# Altium schematic symbol library Resistor.SchLib: 30 symbols
Pins are listed as number, name and electrical type; pins without a type are passive.

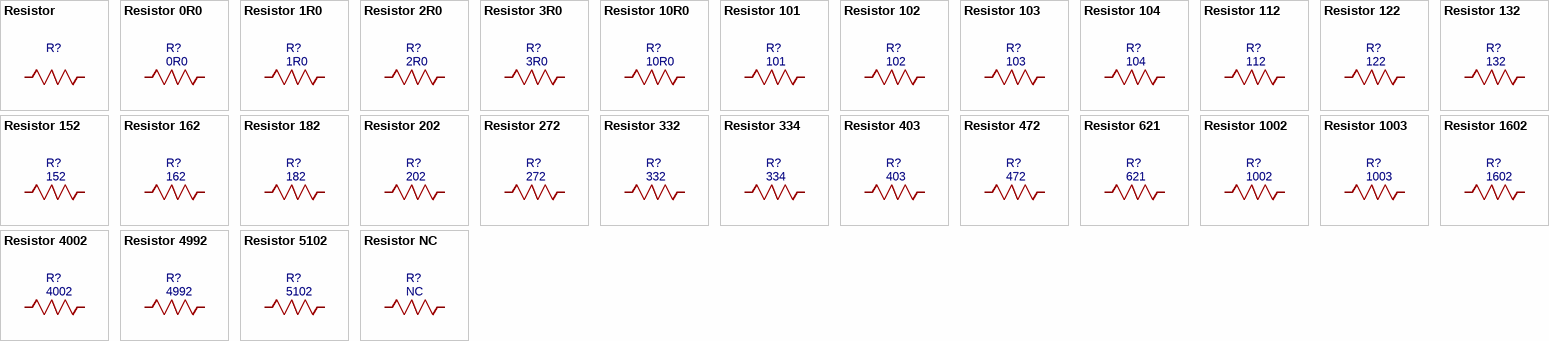
[diagram p0: symbols Resistor to Resistor NC]

## Resistor
designator R?
电阻
footprint R0201 (贴片电阻)
footprint R0402 (贴片电阻)
footprint R0603 (贴片电阻)
footprint R0805 (贴片电阻)
footprint R1206 (贴片电阻)
footprint R1210 (贴片电阻)
footprint R2010 (贴片电阻)
footprint R2512 (贴片电阻)
footprint R_AXIAL-0.3 (直插电阻)
footprint R_AXIAL-0.4 (直插电阻)
footprint R_AXIAL-0.5 (直插电阻)
footprint R_AXIAL-0.6 (直插电阻)
footprint R_AXIAL-0.8 (直插电阻)
footprint R_AXIAL-1.0 (直插电阻)
footprint R_AXIAL-1.2 (直插电阻)
footprint R0805-MIX-0.3 (贴片或直插电阻)
pins: 1, 2

## Resistor 0R0
designator R?, comment 0R0
电阻
footprint R0201 (贴片电阻)
footprint R0402 (贴片电阻)
footprint R0603 (贴片电阻)
footprint R0805 (贴片电阻)
footprint R1206 (贴片电阻)
footprint R1210 (贴片电阻)
footprint R2010 (贴片电阻)
footprint R2512 (贴片电阻)
footprint R_AXIAL-0.3 (直插电阻)
footprint R_AXIAL-0.4 (直插电阻)
footprint R_AXIAL-0.5 (直插电阻)
footprint R_AXIAL-0.6 (直插电阻)
footprint R_AXIAL-0.8 (直插电阻)
footprint R_AXIAL-1.0 (直插电阻)
footprint R_AXIAL-1.2 (直插电阻)
footprint R0805-MIX-0.3 (贴片或直插电阻)
pins: 1, 2

## Resistor 1R0
designator R?, comment 1R0
电阻
footprint R0201 (贴片电阻)
footprint R0402 (贴片电阻)
footprint R0603 (贴片电阻)
footprint R0805 (贴片电阻)
footprint R1206 (贴片电阻)
footprint R1210 (贴片电阻)
footprint R2010 (贴片电阻)
footprint R2512 (贴片电阻)
footprint R_AXIAL-0.3 (直插电阻)
footprint R_AXIAL-0.4 (直插电阻)
footprint R_AXIAL-0.5 (直插电阻)
footprint R_AXIAL-0.6 (直插电阻)
footprint R_AXIAL-0.8 (直插电阻)
footprint R_AXIAL-1.0 (直插电阻)
footprint R_AXIAL-1.2 (直插电阻)
footprint R0805-MIX-0.3 (贴片或直插电阻)
pins: 1, 2

## Resistor 2R0
designator R?, comment 2R0
电阻
footprint R0201 (贴片电阻)
footprint R0402 (贴片电阻)
footprint R0603 (贴片电阻)
footprint R0805 (贴片电阻)
footprint R1206 (贴片电阻)
footprint R1210 (贴片电阻)
footprint R2010 (贴片电阻)
footprint R2512 (贴片电阻)
footprint R_AXIAL-0.3 (直插电阻)
footprint R_AXIAL-0.4 (直插电阻)
footprint R_AXIAL-0.5 (直插电阻)
footprint R_AXIAL-0.6 (直插电阻)
footprint R_AXIAL-0.8 (直插电阻)
footprint R_AXIAL-1.0 (直插电阻)
footprint R_AXIAL-1.2 (直插电阻)
footprint R0805-MIX-0.3 (贴片或直插电阻)
pins: 1, 2

## Resistor 3R0
designator R?, comment 3R0
电阻
footprint R0201 (贴片电阻)
footprint R0402 (贴片电阻)
footprint R0603 (贴片电阻)
footprint R0805 (贴片电阻)
footprint R1206 (贴片电阻)
footprint R1210 (贴片电阻)
footprint R2010 (贴片电阻)
footprint R2512 (贴片电阻)
footprint R_AXIAL-0.3 (直插电阻)
footprint R_AXIAL-0.4 (直插电阻)
footprint R_AXIAL-0.5 (直插电阻)
footprint R_AXIAL-0.6 (直插电阻)
footprint R_AXIAL-0.8 (直插电阻)
footprint R_AXIAL-1.0 (直插电阻)
footprint R_AXIAL-1.2 (直插电阻)
footprint R0805-MIX-0.3 (贴片或直插电阻)
pins: 1, 2

## Resistor 10R0
designator R?, comment 10R0
电阻
footprint R0201 (贴片电阻)
footprint R0402 (贴片电阻)
footprint R0603 (贴片电阻)
footprint R0805 (贴片电阻)
footprint R1206 (贴片电阻)
footprint R1210 (贴片电阻)
footprint R2010 (贴片电阻)
footprint R2512 (贴片电阻)
footprint R_AXIAL-0.3 (直插电阻)
footprint R_AXIAL-0.4 (直插电阻)
footprint R_AXIAL-0.5 (直插电阻)
footprint R_AXIAL-0.6 (直插电阻)
footprint R_AXIAL-0.8 (直插电阻)
footprint R_AXIAL-1.0 (直插电阻)
footprint R_AXIAL-1.2 (直插电阻)
footprint R0805-MIX-0.3 (贴片或直插电阻)
pins: 1, 2

## Resistor 101
designator R?, comment 101
电阻
footprint R0201 (贴片电阻)
footprint R0402 (贴片电阻)
footprint R0603 (贴片电阻)
footprint R0805 (贴片电阻)
footprint R1206 (贴片电阻)
footprint R1210 (贴片电阻)
footprint R2010 (贴片电阻)
footprint R2512 (贴片电阻)
footprint R_AXIAL-0.3 (直插电阻)
footprint R_AXIAL-0.4 (直插电阻)
footprint R_AXIAL-0.5 (直插电阻)
footprint R_AXIAL-0.6 (直插电阻)
footprint R_AXIAL-0.8 (直插电阻)
footprint R_AXIAL-1.0 (直插电阻)
footprint R_AXIAL-1.2 (直插电阻)
footprint R0805-MIX-0.3 (贴片或直插电阻)
pins: 1, 2

## Resistor 102
designator R?, comment 102
电阻
footprint R0201 (贴片电阻)
footprint R0402 (贴片电阻)
footprint R0603 (贴片电阻)
footprint R0805 (贴片电阻)
footprint R1206 (贴片电阻)
footprint R1210 (贴片电阻)
footprint R2010 (贴片电阻)
footprint R2512 (贴片电阻)
footprint R_AXIAL-0.3 (直插电阻)
footprint R_AXIAL-0.4 (直插电阻)
footprint R_AXIAL-0.5 (直插电阻)
footprint R_AXIAL-0.6 (直插电阻)
footprint R_AXIAL-0.8 (直插电阻)
footprint R_AXIAL-1.0 (直插电阻)
footprint R_AXIAL-1.2 (直插电阻)
footprint R0805-MIX-0.3 (贴片或直插电阻)
pins: 1, 2

## Resistor 103
designator R?, comment 103
电阻
footprint R0201 (贴片电阻)
footprint R0402 (贴片电阻)
footprint R0603 (贴片电阻)
footprint R0805 (贴片电阻)
footprint R1206 (贴片电阻)
footprint R1210 (贴片电阻)
footprint R2010 (贴片电阻)
footprint R2512 (贴片电阻)
footprint R_AXIAL-0.3 (直插电阻)
footprint R_AXIAL-0.4 (直插电阻)
footprint R_AXIAL-0.5 (直插电阻)
footprint R_AXIAL-0.6 (直插电阻)
footprint R_AXIAL-0.8 (直插电阻)
footprint R_AXIAL-1.0 (直插电阻)
footprint R_AXIAL-1.2 (直插电阻)
footprint R0805-MIX-0.3 (贴片或直插电阻)
pins: 1, 2

## Resistor 104
designator R?, comment 104
电阻
footprint R0201 (贴片电阻)
footprint R0402 (贴片电阻)
footprint R0603 (贴片电阻)
footprint R0805 (贴片电阻)
footprint R1206 (贴片电阻)
footprint R1210 (贴片电阻)
footprint R2010 (贴片电阻)
footprint R2512 (贴片电阻)
footprint R_AXIAL-0.3 (直插电阻)
footprint R_AXIAL-0.4 (直插电阻)
footprint R_AXIAL-0.5 (直插电阻)
footprint R_AXIAL-0.6 (直插电阻)
footprint R_AXIAL-0.8 (直插电阻)
footprint R_AXIAL-1.0 (直插电阻)
footprint R_AXIAL-1.2 (直插电阻)
footprint R0805-MIX-0.3 (贴片或直插电阻)
pins: 1, 2

## Resistor 112
designator R?, comment 112
电阻
footprint R0201 (贴片电阻)
footprint R0402 (贴片电阻)
footprint R0603 (贴片电阻)
footprint R0805 (贴片电阻)
footprint R1206 (贴片电阻)
footprint R1210 (贴片电阻)
footprint R2010 (贴片电阻)
footprint R2512 (贴片电阻)
footprint R_AXIAL-0.3 (直插电阻)
footprint R_AXIAL-0.4 (直插电阻)
footprint R_AXIAL-0.5 (直插电阻)
footprint R_AXIAL-0.6 (直插电阻)
footprint R_AXIAL-0.8 (直插电阻)
footprint R_AXIAL-1.0 (直插电阻)
footprint R_AXIAL-1.2 (直插电阻)
footprint R0805-MIX-0.3 (贴片或直插电阻)
pins: 1, 2

## Resistor 122
designator R?, comment 122
电阻
footprint R0201 (贴片电阻)
footprint R0402 (贴片电阻)
footprint R0603 (贴片电阻)
footprint R0805 (贴片电阻)
footprint R1206 (贴片电阻)
footprint R1210 (贴片电阻)
footprint R2010 (贴片电阻)
footprint R2512 (贴片电阻)
footprint R_AXIAL-0.3 (直插电阻)
footprint R_AXIAL-0.4 (直插电阻)
footprint R_AXIAL-0.5 (直插电阻)
footprint R_AXIAL-0.6 (直插电阻)
footprint R_AXIAL-0.8 (直插电阻)
footprint R_AXIAL-1.0 (直插电阻)
footprint R_AXIAL-1.2 (直插电阻)
footprint R0805-MIX-0.3 (贴片或直插电阻)
pins: 1, 2

## Resistor 132
designator R?, comment 132
电阻
footprint R0201 (贴片电阻)
footprint R0402 (贴片电阻)
footprint R0603 (贴片电阻)
footprint R0805 (贴片电阻)
footprint R1206 (贴片电阻)
footprint R1210 (贴片电阻)
footprint R2010 (贴片电阻)
footprint R2512 (贴片电阻)
footprint R_AXIAL-0.3 (直插电阻)
footprint R_AXIAL-0.4 (直插电阻)
footprint R_AXIAL-0.5 (直插电阻)
footprint R_AXIAL-0.6 (直插电阻)
footprint R_AXIAL-0.8 (直插电阻)
footprint R_AXIAL-1.0 (直插电阻)
footprint R_AXIAL-1.2 (直插电阻)
footprint R0805-MIX-0.3 (贴片或直插电阻)
pins: 1, 2

## Resistor 152
designator R?, comment 152
电阻
footprint R0201 (贴片电阻)
footprint R0402 (贴片电阻)
footprint R0603 (贴片电阻)
footprint R0805 (贴片电阻)
footprint R1206 (贴片电阻)
footprint R1210 (贴片电阻)
footprint R2010 (贴片电阻)
footprint R2512 (贴片电阻)
footprint R_AXIAL-0.3 (直插电阻)
footprint R_AXIAL-0.4 (直插电阻)
footprint R_AXIAL-0.5 (直插电阻)
footprint R_AXIAL-0.6 (直插电阻)
footprint R_AXIAL-0.8 (直插电阻)
footprint R_AXIAL-1.0 (直插电阻)
footprint R_AXIAL-1.2 (直插电阻)
footprint R0805-MIX-0.3 (贴片或直插电阻)
pins: 1, 2

## Resistor 162
designator R?, comment 162
电阻
footprint R0201 (贴片电阻)
footprint R0402 (贴片电阻)
footprint R0603 (贴片电阻)
footprint R0805 (贴片电阻)
footprint R1206 (贴片电阻)
footprint R1210 (贴片电阻)
footprint R2010 (贴片电阻)
footprint R2512 (贴片电阻)
footprint R_AXIAL-0.3 (直插电阻)
footprint R_AXIAL-0.4 (直插电阻)
footprint R_AXIAL-0.5 (直插电阻)
footprint R_AXIAL-0.6 (直插电阻)
footprint R_AXIAL-0.8 (直插电阻)
footprint R_AXIAL-1.0 (直插电阻)
footprint R_AXIAL-1.2 (直插电阻)
footprint R0805-MIX-0.3 (贴片或直插电阻)
pins: 1, 2

## Resistor 182
designator R?, comment 182
电阻
footprint R0201 (贴片电阻)
footprint R0402 (贴片电阻)
footprint R0603 (贴片电阻)
footprint R0805 (贴片电阻)
footprint R1206 (贴片电阻)
footprint R1210 (贴片电阻)
footprint R2010 (贴片电阻)
footprint R2512 (贴片电阻)
footprint R_AXIAL-0.3 (直插电阻)
footprint R_AXIAL-0.4 (直插电阻)
footprint R_AXIAL-0.5 (直插电阻)
footprint R_AXIAL-0.6 (直插电阻)
footprint R_AXIAL-0.8 (直插电阻)
footprint R_AXIAL-1.0 (直插电阻)
footprint R_AXIAL-1.2 (直插电阻)
footprint R0805-MIX-0.3 (贴片或直插电阻)
pins: 1, 2

## Resistor 202
designator R?, comment 202
电阻
footprint R0201 (贴片电阻)
footprint R0402 (贴片电阻)
footprint R0603 (贴片电阻)
footprint R0805 (贴片电阻)
footprint R1206 (贴片电阻)
footprint R1210 (贴片电阻)
footprint R2010 (贴片电阻)
footprint R2512 (贴片电阻)
footprint R_AXIAL-0.3 (直插电阻)
footprint R_AXIAL-0.4 (直插电阻)
footprint R_AXIAL-0.5 (直插电阻)
footprint R_AXIAL-0.6 (直插电阻)
footprint R_AXIAL-0.8 (直插电阻)
footprint R_AXIAL-1.0 (直插电阻)
footprint R_AXIAL-1.2 (直插电阻)
footprint R0805-MIX-0.3 (贴片或直插电阻)
pins: 1, 2

## Resistor 272
designator R?, comment 272
电阻
footprint R0201 (贴片电阻)
footprint R0402 (贴片电阻)
footprint R0603 (贴片电阻)
footprint R0805 (贴片电阻)
footprint R1206 (贴片电阻)
footprint R1210 (贴片电阻)
footprint R2010 (贴片电阻)
footprint R2512 (贴片电阻)
footprint R_AXIAL-0.3 (直插电阻)
footprint R_AXIAL-0.4 (直插电阻)
footprint R_AXIAL-0.5 (直插电阻)
footprint R_AXIAL-0.6 (直插电阻)
footprint R_AXIAL-0.8 (直插电阻)
footprint R_AXIAL-1.0 (直插电阻)
footprint R_AXIAL-1.2 (直插电阻)
footprint R0805-MIX-0.3 (贴片或直插电阻)
pins: 1, 2

## Resistor 332
designator R?, comment 332
电阻
footprint R0201 (贴片电阻)
footprint R0402 (贴片电阻)
footprint R0603 (贴片电阻)
footprint R0805 (贴片电阻)
footprint R1206 (贴片电阻)
footprint R1210 (贴片电阻)
footprint R2010 (贴片电阻)
footprint R2512 (贴片电阻)
footprint R_AXIAL-0.3 (直插电阻)
footprint R_AXIAL-0.4 (直插电阻)
footprint R_AXIAL-0.5 (直插电阻)
footprint R_AXIAL-0.6 (直插电阻)
footprint R_AXIAL-0.8 (直插电阻)
footprint R_AXIAL-1.0 (直插电阻)
footprint R_AXIAL-1.2 (直插电阻)
footprint R0805-MIX-0.3 (贴片或直插电阻)
pins: 1, 2

## Resistor 334
designator R?, comment 334
电阻
footprint R0201 (贴片电阻)
footprint R0402 (贴片电阻)
footprint R0603 (贴片电阻)
footprint R0805 (贴片电阻)
footprint R1206 (贴片电阻)
footprint R1210 (贴片电阻)
footprint R2010 (贴片电阻)
footprint R2512 (贴片电阻)
footprint R_AXIAL-0.3 (直插电阻)
footprint R_AXIAL-0.4 (直插电阻)
footprint R_AXIAL-0.5 (直插电阻)
footprint R_AXIAL-0.6 (直插电阻)
footprint R_AXIAL-0.8 (直插电阻)
footprint R_AXIAL-1.0 (直插电阻)
footprint R_AXIAL-1.2 (直插电阻)
footprint R0805-MIX-0.3 (贴片或直插电阻)
pins: 1, 2

## Resistor 403
designator R?, comment 403
电阻
footprint R0201 (贴片电阻)
footprint R0402 (贴片电阻)
footprint R0603 (贴片电阻)
footprint R0805 (贴片电阻)
footprint R1206 (贴片电阻)
footprint R1210 (贴片电阻)
footprint R2010 (贴片电阻)
footprint R2512 (贴片电阻)
footprint R_AXIAL-0.3 (直插电阻)
footprint R_AXIAL-0.4 (直插电阻)
footprint R_AXIAL-0.5 (直插电阻)
footprint R_AXIAL-0.6 (直插电阻)
footprint R_AXIAL-0.8 (直插电阻)
footprint R_AXIAL-1.0 (直插电阻)
footprint R_AXIAL-1.2 (直插电阻)
footprint R0805-MIX-0.3 (贴片或直插电阻)
pins: 1, 2

## Resistor 472
designator R?, comment 472
电阻
footprint R0201 (贴片电阻)
footprint R0402 (贴片电阻)
footprint R0603 (贴片电阻)
footprint R0805 (贴片电阻)
footprint R1206 (贴片电阻)
footprint R1210 (贴片电阻)
footprint R2010 (贴片电阻)
footprint R2512 (贴片电阻)
footprint R_AXIAL-0.3 (直插电阻)
footprint R_AXIAL-0.4 (直插电阻)
footprint R_AXIAL-0.5 (直插电阻)
footprint R_AXIAL-0.6 (直插电阻)
footprint R_AXIAL-0.8 (直插电阻)
footprint R_AXIAL-1.0 (直插电阻)
footprint R_AXIAL-1.2 (直插电阻)
footprint R0805-MIX-0.3 (贴片或直插电阻)
pins: 1, 2

## Resistor 621
designator R?, comment 621
电阻
footprint R0201 (贴片电阻)
footprint R0402 (贴片电阻)
footprint R0603 (贴片电阻)
footprint R0805 (贴片电阻)
footprint R1206 (贴片电阻)
footprint R1210 (贴片电阻)
footprint R2010 (贴片电阻)
footprint R2512 (贴片电阻)
footprint R_AXIAL-0.3 (直插电阻)
footprint R_AXIAL-0.4 (直插电阻)
footprint R_AXIAL-0.5 (直插电阻)
footprint R_AXIAL-0.6 (直插电阻)
footprint R_AXIAL-0.8 (直插电阻)
footprint R_AXIAL-1.0 (直插电阻)
footprint R_AXIAL-1.2 (直插电阻)
footprint R0805-MIX-0.3 (贴片或直插电阻)
pins: 1, 2

## Resistor 1002
designator R?, comment 1002
电阻
footprint R0201 (贴片电阻)
footprint R0402 (贴片电阻)
footprint R0603 (贴片电阻)
footprint R0805 (贴片电阻)
footprint R1206 (贴片电阻)
footprint R1210 (贴片电阻)
footprint R2010 (贴片电阻)
footprint R2512 (贴片电阻)
footprint R_AXIAL-0.3 (直插电阻)
footprint R_AXIAL-0.4 (直插电阻)
footprint R_AXIAL-0.5 (直插电阻)
footprint R_AXIAL-0.6 (直插电阻)
footprint R_AXIAL-0.8 (直插电阻)
footprint R_AXIAL-1.0 (直插电阻)
footprint R_AXIAL-1.2 (直插电阻)
footprint R0805-MIX-0.3 (贴片或直插电阻)
pins: 1, 2

## Resistor 1003
designator R?, comment 1003
电阻
footprint R0201 (贴片电阻)
footprint R0402 (贴片电阻)
footprint R0603 (贴片电阻)
footprint R0805 (贴片电阻)
footprint R1206 (贴片电阻)
footprint R1210 (贴片电阻)
footprint R2010 (贴片电阻)
footprint R2512 (贴片电阻)
footprint R_AXIAL-0.3 (直插电阻)
footprint R_AXIAL-0.4 (直插电阻)
footprint R_AXIAL-0.5 (直插电阻)
footprint R_AXIAL-0.6 (直插电阻)
footprint R_AXIAL-0.8 (直插电阻)
footprint R_AXIAL-1.0 (直插电阻)
footprint R_AXIAL-1.2 (直插电阻)
footprint R0805-MIX-0.3 (贴片或直插电阻)
pins: 1, 2

## Resistor 1602
designator R?, comment 1602
电阻
footprint R0201 (贴片电阻)
footprint R0402 (贴片电阻)
footprint R0603 (贴片电阻)
footprint R0805 (贴片电阻)
footprint R1206 (贴片电阻)
footprint R1210 (贴片电阻)
footprint R2010 (贴片电阻)
footprint R2512 (贴片电阻)
footprint R_AXIAL-0.3 (直插电阻)
footprint R_AXIAL-0.4 (直插电阻)
footprint R_AXIAL-0.5 (直插电阻)
footprint R_AXIAL-0.6 (直插电阻)
footprint R_AXIAL-0.8 (直插电阻)
footprint R_AXIAL-1.0 (直插电阻)
footprint R_AXIAL-1.2 (直插电阻)
footprint R0805-MIX-0.3 (贴片或直插电阻)
pins: 1, 2

## Resistor 4002
designator R?, comment 4002
电阻
footprint R0201 (贴片电阻)
footprint R0402 (贴片电阻)
footprint R0603 (贴片电阻)
footprint R0805 (贴片电阻)
footprint R1206 (贴片电阻)
footprint R1210 (贴片电阻)
footprint R2010 (贴片电阻)
footprint R2512 (贴片电阻)
footprint R_AXIAL-0.3 (直插电阻)
footprint R_AXIAL-0.4 (直插电阻)
footprint R_AXIAL-0.5 (直插电阻)
footprint R_AXIAL-0.6 (直插电阻)
footprint R_AXIAL-0.8 (直插电阻)
footprint R_AXIAL-1.0 (直插电阻)
footprint R_AXIAL-1.2 (直插电阻)
footprint R0805-MIX-0.3 (贴片或直插电阻)
pins: 1, 2

## Resistor 4992
designator R?, comment 4992
电阻
footprint R0201 (贴片电阻)
footprint R0402 (贴片电阻)
footprint R0603 (贴片电阻)
footprint R0805 (贴片电阻)
footprint R1206 (贴片电阻)
footprint R1210 (贴片电阻)
footprint R2010 (贴片电阻)
footprint R2512 (贴片电阻)
footprint R_AXIAL-0.3 (直插电阻)
footprint R_AXIAL-0.4 (直插电阻)
footprint R_AXIAL-0.5 (直插电阻)
footprint R_AXIAL-0.6 (直插电阻)
footprint R_AXIAL-0.8 (直插电阻)
footprint R_AXIAL-1.0 (直插电阻)
footprint R_AXIAL-1.2 (直插电阻)
footprint R0805-MIX-0.3 (贴片或直插电阻)
pins: 1, 2

## Resistor 5102
designator R?, comment 5102
电阻
footprint R0201 (贴片电阻)
footprint R0402 (贴片电阻)
footprint R0603 (贴片电阻)
footprint R0805 (贴片电阻)
footprint R1206 (贴片电阻)
footprint R1210 (贴片电阻)
footprint R2010 (贴片电阻)
footprint R2512 (贴片电阻)
footprint R_AXIAL-0.3 (直插电阻)
footprint R_AXIAL-0.4 (直插电阻)
footprint R_AXIAL-0.5 (直插电阻)
footprint R_AXIAL-0.6 (直插电阻)
footprint R_AXIAL-0.8 (直插电阻)
footprint R_AXIAL-1.0 (直插电阻)
footprint R_AXIAL-1.2 (直插电阻)
footprint R0805-MIX-0.3 (贴片或直插电阻)
pins: 1, 2

## Resistor NC
designator R?, comment NC
电阻（不连接）
footprint R0201 (贴片电阻)
footprint R0402 (贴片电阻)
footprint R0603 (贴片电阻)
footprint R0805 (贴片电阻)
footprint R1206 (贴片电阻)
footprint R1210 (贴片电阻)
footprint R2010 (贴片电阻)
footprint R2512 (贴片电阻)
footprint R_AXIAL-0.3 (直插电阻)
footprint R_AXIAL-0.4 (直插电阻)
footprint R_AXIAL-0.5 (直插电阻)
footprint R_AXIAL-0.6 (直插电阻)
footprint R_AXIAL-0.8 (直插电阻)
footprint R_AXIAL-1.0 (直插电阻)
footprint R_AXIAL-1.2 (直插电阻)
footprint R0805-MIX-0.3 (贴片或直插电阻)
pins: 1, 2